# Altium schematic symbol library MixedICs.SCHLIB: 28 symbols
Pins are listed as number, name and electrical type; pins without a type are passive.

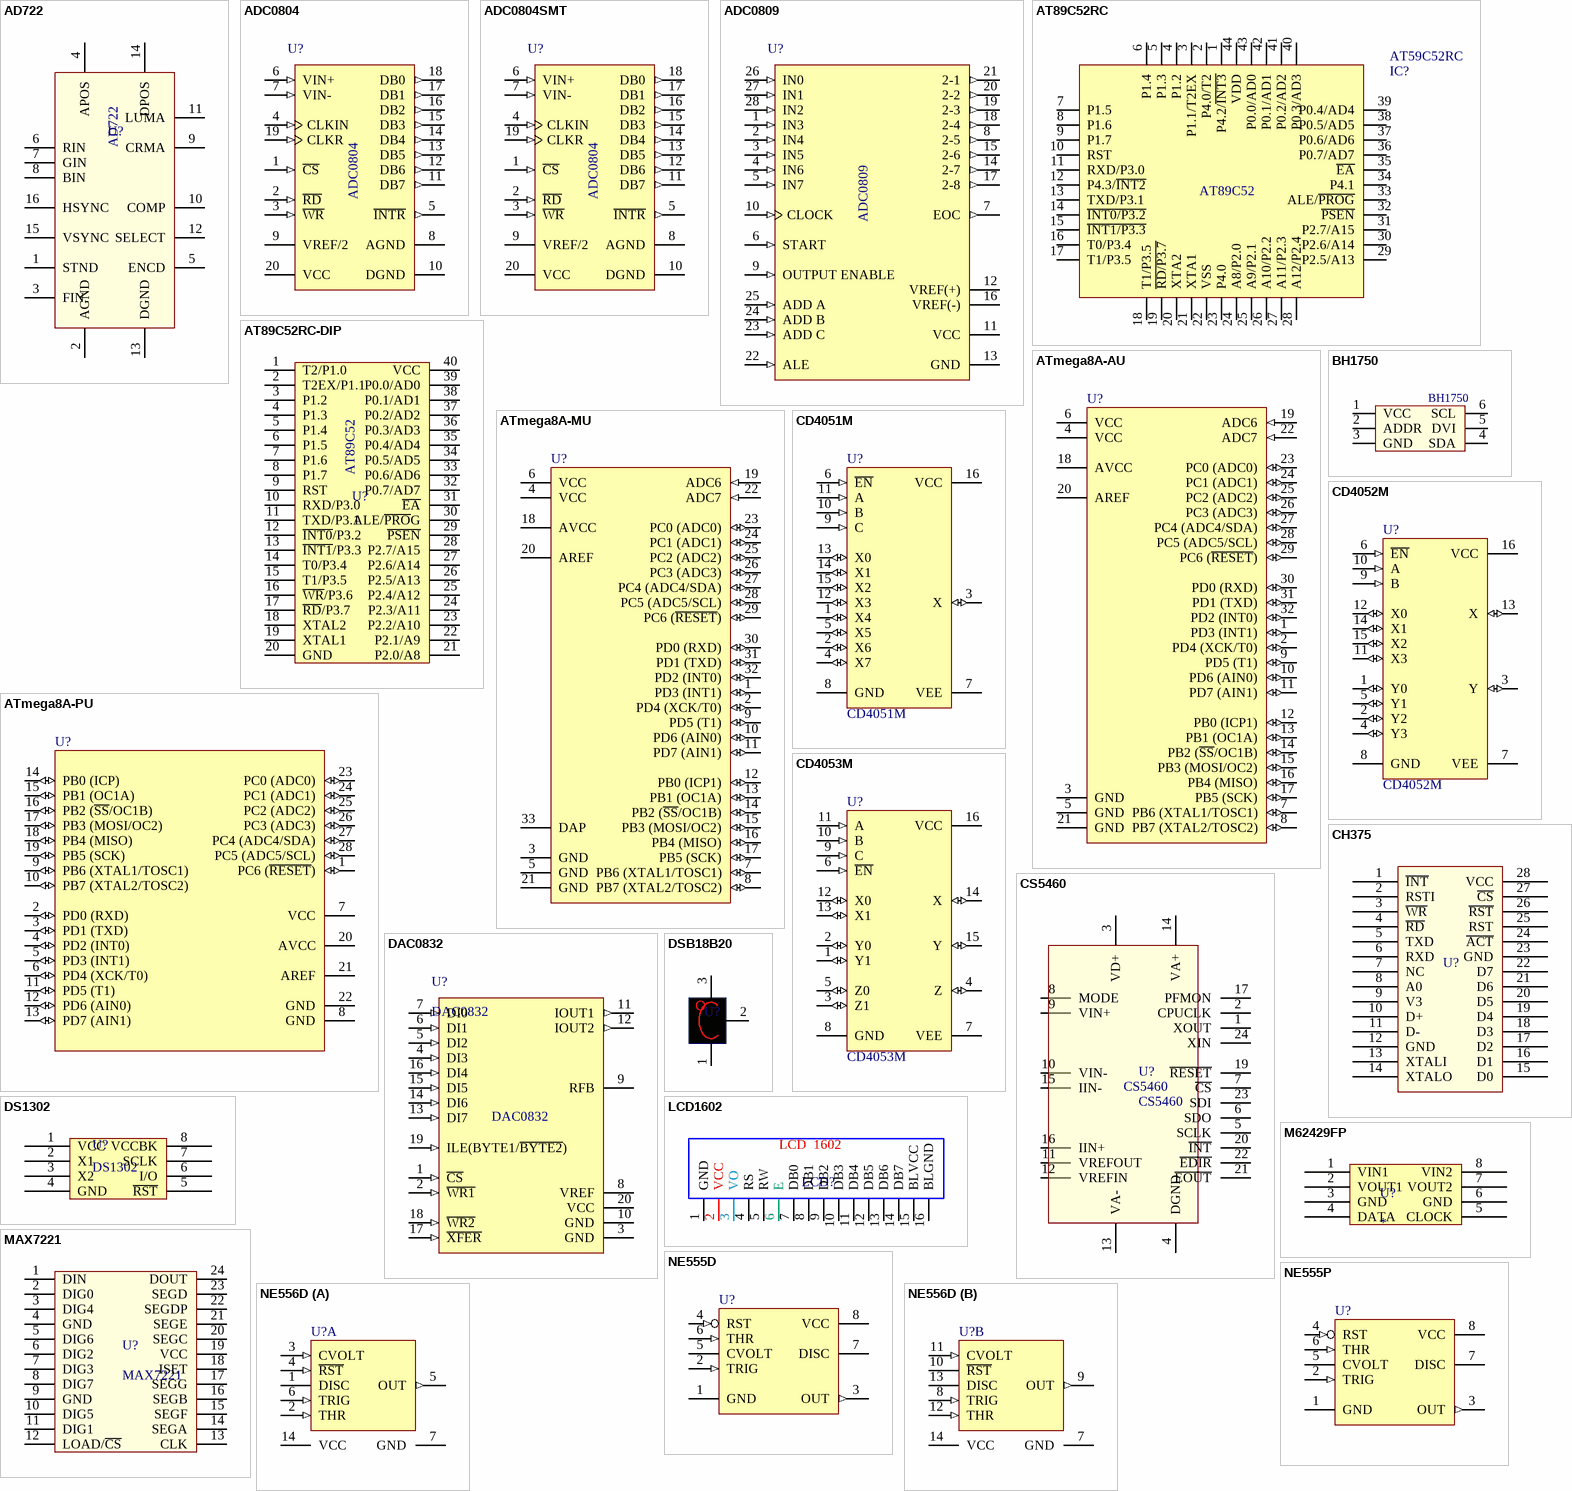
[diagram p0: symbols AD722 to NE556D]

## AD722
designator U?  (value not drawn)
RGB to NTSC/PAL Encoder
footprint SOP-16GN (Wide body.)
3D model SOIC-16W (PCB3D Model)
pins: 1 STND, 2 AGND, 3 FIN, 4 APOS, 5 ENCD, 6 RIN, 7 GIN, 8 BIN, 9 CRMA, 10 COMP, 11 LUMA, 12 SELECT, 13 DGND, 14 DPOS, 15 VSYNC, 16 HSYNC

## ADC0804
designator U?  (value not drawn)
8-Bit uP Compatible A/D Converters, 20-pin MDIP; PartNumber: ADC0804LCN; Manufacturer: National Semiconductor; PackageTopMarking: NSUZXYYTTE#*ADC0804LCN; PowerWise: N; CompType: ADC IC; Published: 4-Dec-2008; DatasheetVersion: Sep-1992; PackageVersion: revG, Nov-1984; PackageReference: N20A; Publisher: Altium Limited; PackageDescription: Molded Dip (N) 20 Lead; Supplier 1: Farnell; Supplier Part Number 1: 9486593; RoHS: N; PinCount: 20; Code_JEDEC: MS-001-AD; ComponentLink1Description: ADC0804 Datasheet; ComponentLink1URL: http://www.national.com/ds/AD/ADC0804.pdf; ComponentLink2Description: ADC0804 Web Page; ComponentLink2URL: http://www.national.com/pf/AD/ADC0804.html; ComponentLink3Description: N20A Package Page; ComponentLink3URL: http://www.national.com/packaging/folders/n20a.html
footprint DIP-20
3D model DIP-20 (PCB3D Model)
pins: 1 ~{CS} (in), 2 ~{RD} (in), 3 ~{WR} (in), 4 CLKIN (in), 5 ~{INTR} (out), 6 VIN+ (in), 7 VIN- (in), 8 AGND (power), 9 VREF/2 (power), 10 DGND (power), 11 DB7 (out), 12 DB6 (out), 13 DB5 (out), 14 DB4 (out), 15 DB3 (out), 16 DB2 (out), 17 DB1 (out), 18 DB0 (out), 19 CLKR (in), 20 VCC (power)

## ADC0804SMT
designator U?  (value not drawn)
8-Bit uP Compatible A/D Converters, 20-pin MDIP; PartNumber: ADC0804LCN; Manufacturer: National Semiconductor; PackageTopMarking: NSUZXYYTTE#*ADC0804LCN; PowerWise: N; CompType: ADC IC; Published: 4-Dec-2008; DatasheetVersion: Sep-1992; PackageVersion: revG, Nov-1984; PackageReference: N20A; Publisher: Altium Limited; PackageDescription: Molded Dip (N) 20 Lead; Supplier 1: Farnell; Supplier Part Number 1: 9486593; RoHS: N; PinCount: 20; Code_JEDEC: MS-001-AD; ComponentLink1Description: ADC0804 Datasheet; ComponentLink1URL: http://www.national.com/ds/AD/ADC0804.pdf; ComponentLink2Description: ADC0804 Web Page; ComponentLink2URL: http://www.national.com/pf/AD/ADC0804.html; ComponentLink3Description: N20A Package Page; ComponentLink3URL: http://www.national.com/packaging/folders/n20a.html
footprint SOP-20 (SOIC, 20-Leads, Body 12.8x7.5mm, Pitch 1.27mm, IPC Low Density)
3D model SOIC-20W (PCB3D Model)
pins: 1 ~{CS} (in), 2 ~{RD} (in), 3 ~{WR} (in), 4 CLKIN (in), 5 ~{INTR} (out), 6 VIN+ (in), 7 VIN- (in), 8 AGND (power), 9 VREF/2 (power), 10 DGND (power), 11 DB7 (out), 12 DB6 (out), 13 DB5 (out), 14 DB4 (out), 15 DB3 (out), 16 DB2 (out), 17 DB1 (out), 18 DB0 (out), 19 CLKR (in), 20 VCC (power)
text: ADC0804

## ADC0809
designator U?  (value not drawn)
8-bit Microprocessor Compatible A/D Converters With 8-Channel Multiplexer, 28-pin MDIP; PartNumber: ADC0809CCN; Manufacturer: National Semiconductor; PackageTopMarking: NSUZXYYTTE#*ADC0809CCN; PowerWise: N; CompType: ADC IC; Published: 4-Dec-2008; DatasheetVersion: Sep-1992; PackageVersion: revB, Aug-1993; PackageReference: NA28E; Publisher: Altium Limited; PackageDescription: Molded Dip, 28 Lead, .600 Centers, Substractor Package; Supplier 1: Farnell; Supplier Part Number 1: 9486682; RoHS: N; PinCount: 28; ComponentLink1Description: ADC0809 Datasheet; ComponentLink1URL: http://www.national.com/ds/AD/ADC0809.pdf; ComponentLink2Description: ADC0809 Web Page; ComponentLink2URL: http://www.national.com/pf/AD/ADC0809.html; ComponentLink3Description: NA28E Package Page; ComponentLink3URL: http://www.national.com/packaging/folders/na28e.html
footprint DIP-28
pins: 1 IN3 (in), 2 IN4 (in), 3 IN5 (in), 4 IN6 (in), 5 IN7 (in), 6 START (in), 7 EOC (out), 8 2-5 (out), 9 OUTPUT ENABLE (in), 10 CLOCK (in), 11 VCC (power), 12 VREF(+) (power), 13 GND (power), 14 2-7 (out), 15 2-6 (out), 16 VREF(-) (power), 17 2-8 (out), 18 2-4 (out), 19 2-3 (out), 20 2-2 (out), 21 2-1 (out), 22 ALE (in), 23 ADD C (in), 24 ADD B (in), 25 ADD A (in), 26 IN0 (in), 27 IN1 (in), 28 IN2 (in)

## AT89C52RC
designator AT59C52RC, comment IC?
footprint PLCC44
3D model PLCC-44 (PCB3D Model)
pins: 1 P4.2/~{INT3}, 2 P4.0/T2, 3 P1.1/T2EX, 4 P1.2, 5 P1.3, 6 P1.4, 7 P1.5, 8 P1.6, 9 P1.7, 10 RST, 11 RXD/P3.0, 12 P4.3/~{INT2}, 13 TXD/P3.1, 14 ~{INT0/P3.2}, 15 ~{INT1/P3.3}, 16 T0/P3.4, 17 T1/P3.5, 18 T1/P3.5, 19 ~{RD/P3.7}, 20 XTA2, 21 XTA1, 22 VSS, 23 P4.0, 24 A8/P2.0, 25 A9/P2.1, 26 A10/P2.2, 27 A11/P2.3, 28 A12/P2.4, 29 P2.5/A13, 30 P2.6/A14, 31 P2.7/A15, 32 ~{PSEN}, 33 ALE/~{PROG}, 34 P4.1, 35 ~{EA}, 36 P0.7/AD7, 37 P0.6/AD6, 38 P0.5/AD5, 39 P0.4/AD4, 40 P0.3/AD3, 41 P0.2/AD2, 42 P0.1/AD1, 43 P0.0/AD0, 44 VDD
text: AT89C52

## AT89C52RC-DIP
designator U?, comment AT89C52  (value not drawn)
AT89C52RC DIP40
footprint DIP-40
3D model DIP-40 (PCB3D Model)
pins: 1 T2/P1.0, 2 T2EX/P1.1, 3 P1.2, 4 P1.3, 5 P1.4, 6 P1.5, 7 P1.6, 8 P1.7, 9 RST, 10 RXD/P3.0, 11 TXD/P3.1, 12 ~{INT0}/P3.2, 13 ~{INT1}/P3.3, 14 T0/P3.4, 15 T1/P3.5, 16 ~{WR}/P3.6, 17 ~{RD}/P3.7, 18 XTAL2, 19 XTAL1, 20 GND, 21 P2.0/A8, 22 P2.1/A9, 23 P2.2/A10, 24 P2.3/A11, 25 P2.4/A12, 26 P2.5/A13, 27 P2.6/A14, 28 P2.7/A15, 29 ~{PSEN}, 30 ALE/~{PRO}G, 31 ~{EA}, 32 P0.7/AD7, 33 P0.6/AD6, 34 P0.5/AD5, 35 P0.4/AD4, 36 P0.3/AD3, 37 P0.2/AD2, 38 P0.1/AD1, 39 P0.0/AD0, 40 VCC

## ATmega8A-AU
designator U?
8-bit AVR Microcontroller, 8KB Flash, 512 Bytes EEPROM, 1KB SRAM, 32-pin TQFP, Industrial Grade (-40癈 to 85癈); Published: 1-Apr-2010; DatasheetVersion: revC, Jul-2009; PackageVersion: revB, Oct-2001; PackageReference: 32A; Publisher: Altium Limited; PackageDescription: 32-Lead, 7x7x1.0 mm Body, 0.8mm Lead Pitch, Thin Profile Plastic Quad Flat Package (TQFP); Supplier 1: Digi-Key; Supplier Part Number 1: ATMEGA8A-AU-ND; Supplier 2: Farnell; Supplier Part Number 2: 1748532; Supplier 3: Mouser; Supplier Part Number 3: 556-ATMEGA8A-AU; Code_JEDEC: MS-026-ABA; ComponentLink1Description: Manufacturer Link; ComponentLink1URL: http://www.atmel.com/products/avr/default.asp?; ComponentLink2Description: ATmega8A Datasheet; ComponentLink2URL: http://www.atmel.com/dyn/resources/prod_documents/doc8159.pdf; ComponentLink3Description: ATmega8A Summary; ComponentLink3URL: http://www.atmel.com/dyn/resources/prod_documents/8159S.pdf; ComponentLink4Description: Atmel.com Home; ComponentLink4URL: http://www.atmel.com
footprint TQFP-32AN (Thin QFP, 32-Leads, Body 7x7mm, Pitch 0.8mm, IPC Medium Density)
footprint TQFP-32AL (Thin QFP, 32-Leads, Body 7x7mm, Pitch 0.8mm, IPC High Density)
footprint TQFP-32AM (Thin QFP, 32-Leads, Body 7x7mm, Pitch 0.8mm, IPC Low Density)
pins: 1 PD3 (INT1) (io), 2 PD4 (XCK/T0) (io), 3 GND (power), 4 VCC (power), 5 GND (power), 6 VCC (power), 7 PB6 (XTAL1/TOSC1) (io), 8 PB7 (XTAL2/TOSC2) (io), 9 PD5 (T1) (io), 10 PD6 (AIN0) (io), 11 PD7 (AIN1) (io), 12 PB0 (ICP1) (io), 13 PB1 (OC1A) (io), 14 PB2 (~{SS}/OC1B) (io), 15 PB3 (MOSI/OC2) (io), 16 PB4 (MISO) (io), 17 PB5 (SCK) (io), 18 AVCC (power), 19 ADC6 (in), 20 AREF (power), 21 GND (power), 22 ADC7 (in), 23 PC0 (ADC0) (io), 24 PC1 (ADC1) (io), 25 PC2 (ADC2) (io), 26 PC3 (ADC3) (io), 27 PC4 (ADC4/SDA) (io), 28 PC5 (ADC5/SCL) (io), 29 PC6 (~{RESET}) (io), 30 PD0 (RXD) (io), 31 PD1 (TXD) (io), 32 PD2 (INT0) (io)

## ATmega8A-MU
designator U?
8-bit AVR Microcontroller, 8KB Flash, 512 Bytes EEPROM, 1KB SRAM, 33-pin MLF, Industrial Grade (-40癈 to 85癈); Published: 1-Apr-2010; DatasheetVersion: revC, Jul-2009; PackageVersion: revE, May-2006; PackageReference: 32M1-A; Publisher: Altium Limited; PackageDescription: 32-Pin Micro Lead Frame Package (MLF),  5 x 5 x 1.0 mm Body, Pitch 0.50 mm, 3.10mm Exposed Pad; Supplier 1: Digi-Key; Supplier Part Number 1: ATMEGA8A-MU-ND; Supplier 2: Farnell; Supplier Part Number 2: 1748533; Supplier 3: Mouser; Supplier Part Number 3: 556-ATMEGA8A-MU; Code_JEDEC: MO-220-VHHD-2; ComponentLink1Description: Manufacturer Link; ComponentLink1URL: http://www.atmel.com/products/avr/default.asp?; ComponentLink2Description: ATmega8A Datasheet; ComponentLink2URL: http://www.atmel.com/dyn/resources/prod_documents/doc8159.pdf; ComponentLink3Description: ATmega8A Summary; ComponentLink3URL: http://www.atmel.com/dyn/resources/prod_documents/8159S.pdf; ComponentLink4Description: Atmel.com Home; ComponentLink4URL: http://www.atmel.com
footprint 32M1-A_N (QFN, 32-Leads, Body 5x5mm, Pitch 0.5mm, IPC Medium Density)
footprint 32M1-A_L (QFN, 32-Leads, Body 5x5mm, Pitch 0.5mm, IPC High Density)
footprint 32M1-A_M (QFN, 32-Leads, Body 5x5mm, Pitch 0.5mm, IPC Low Density)
pins: 1 PD3 (INT1) (io), 2 PD4 (XCK/T0) (io), 3 GND (power), 4 VCC (power), 5 GND (power), 6 VCC (power), 7 PB6 (XTAL1/TOSC1) (io), 8 PB7 (XTAL2/TOSC2) (io), 9 PD5 (T1) (io), 10 PD6 (AIN0) (io), 11 PD7 (AIN1) (io), 12 PB0 (ICP1) (io), 13 PB1 (OC1A) (io), 14 PB2 (~{SS}/OC1B) (io), 15 PB3 (MOSI/OC2) (io), 16 PB4 (MISO) (io), 17 PB5 (SCK) (io), 18 AVCC (power), 19 ADC6 (in), 20 AREF (power), 21 GND (power), 22 ADC7 (in), 23 PC0 (ADC0) (io), 24 PC1 (ADC1) (io), 25 PC2 (ADC2) (io), 26 PC3 (ADC3) (io), 27 PC4 (ADC4/SDA) (io), 28 PC5 (ADC5/SCL) (io), 29 PC6 (~{RESET}) (io), 30 PD0 (RXD) (io), 31 PD1 (TXD) (io), 32 PD2 (INT0) (io), 33 DAP (power)

## ATmega8A-PU
designator U?
8-bit AVR Microcontroller, 8KB Flash, 512 Bytes EEPROM, 1KB SRAM, 28-pin PDIP, Industrial Grade (-40癈 to 85癈); Published: 1-Apr-2010; DatasheetVersion: revC, Jul-2009; PackageVersion: revB, Sep-2001; PackageReference: 28P3; Publisher: Altium Limited; PackageDescription: 28-lead (0.300"/7.62mm Wide) Plastic Dual Inline Package (PDIP); Supplier 1: Digi-Key; Supplier Part Number 1: ATMEGA8A-PU-ND; Supplier 2: Farnell; Supplier Part Number 2: 1748534; Supplier 3: Mouser; Supplier Part Number 3: 556-ATMEGA8A-PU; ComponentLink1Description: Manufacturer Link; ComponentLink1URL: http://www.atmel.com/products/avr/default.asp?; ComponentLink2Description: ATmega8A Datasheet; ComponentLink2URL: http://www.atmel.com/dyn/resources/prod_documents/doc8159.pdf; ComponentLink3Description: ATmega8A Summary; ComponentLink3URL: http://www.atmel.com/dyn/resources/prod_documents/8159S.pdf; ComponentLink4Description: Atmel.com Home; ComponentLink4URL: http://www.atmel.com
footprint DIP-28 (DIP, 28-Leads, Row Spacing 7.62mm, Pitch 2.54mm, Body 34.67x7.3mm)
pins: 1 PC6 (~{RESET}) (io), 2 PD0 (RXD) (io), 3 PD1 (TXD) (io), 4 PD2 (INT0) (io), 5 PD3 (INT1) (io), 6 PD4 (XCK/T0) (io), 7 VCC (power), 8 GND (power), 9 PB6 (XTAL1/TOSC1) (io), 10 PB7 (XTAL2/TOSC2) (io), 11 PD5 (T1) (io), 12 PD6 (AIN0) (io), 13 PD7 (AIN1) (io), 14 PB0 (ICP) (io), 15 PB1 (OC1A) (io), 16 PB2 (~{SS}/OC1B) (io), 17 PB3 (MOSI/OC2) (io), 18 PB4 (MISO) (io), 19 PB5 (SCK) (io), 20 AVCC (power), 21 AREF, 22 GND (power), 23 PC0 (ADC0) (io), 24 PC1 (ADC1) (io), 25 PC2 (ADC2) (io), 26 PC3 (ADC3) (io), 27 PC4 (ADC4/SDA) (io), 28 PC5 (ADC5/SCL) (io)

## BH1750
designator U?  (value not drawn)
16 位数字输出型   环境光强度传感器集成电路
footprint SMT6 (For BH1750FVI)
pins: 1 VCC, 2 ADDR, 3 GND, 4 SDA, 5 DVI, 6 SCL

## CD4051M
designator U?
8-Channel Analog Multiplexer; Published: 17-Jul-2002; LatestRevisionDate: 13-Apr-2006; LatestRevisionNote: IPC-7351 Footprint Added.; DatasheetVersion: May-1999; PackageVersion: 2000; PackageReference: M16A; Publisher: Altium Limited; PackageDescription: 16-Pin Small Outline Integrated Circuit 1.27 mm Pitch; Code_IPC: SOIC127P600-16; ComponentLink1Description: Manufacturer Link; ComponentLink1URL: http://www.fairchildsemi.com/
3D model SOIC-16A (PCB3D Model)
footprint SOP-16GL
footprint SOP-16GM
footprint SOP-16GN (Wide body.)
pins: 1 X4 (io), 2 X6 (io), 3 X (io), 4 X7 (io), 5 X5 (io), 6 ~{EN} (in), 7 VEE (power), 8 GND (power), 9 C (in), 10 B (in), 11 A (in), 12 X3 (io), 13 X0 (io), 14 X1 (io), 15 X2 (io), 16 VCC (power)

## CD4052M
designator U?
Dual 4-Channel Analog Multiplexer; Published: 17-Jul-2002; LatestRevisionDate: 13-Apr-2006; LatestRevisionNote: IPC-7351 Footprint Added.; DatasheetVersion: May-1999; PackageVersion: 2000; PackageReference: M16A; Publisher: Altium Limited; PackageDescription: 16-Pin Small Outline Integrated Circuit 1.27 mm Pitch; Code_IPC: SOIC127P600-16; ComponentLink1Description: Manufacturer Link; ComponentLink1URL: http://www.fairchildsemi.com/
footprint SOP-16GL
3D model SOIC-16A (PCB3D Model)
footprint SOP-16GM
footprint SOP-16GN (Wide body.)
pins: 1 Y0 (io), 2 Y2 (io), 3 Y (io), 4 Y3 (io), 5 Y1 (io), 6 ~{EN} (in), 7 VEE (power), 8 GND (power), 9 B (in), 10 A (in), 11 X3 (io), 12 X0 (io), 13 X (io), 14 X1 (io), 15 X2 (io), 16 VCC (power)

## CD4053M
designator U?
Triple 2-Channel Analog Multiplexer; Published: 17-Jul-2002; LatestRevisionDate: 13-Apr-2006; LatestRevisionNote: IPC-7351 Footprint Added.; DatasheetVersion: May-1999; PackageVersion: 2000; PackageReference: M16A; Publisher: Altium Limited; PackageDescription: 16-Pin Small Outline Integrated Circuit 1.27 mm Pitch; Code_IPC: SOIC127P600-16; ComponentLink1Description: Manufacturer Link; ComponentLink1URL: http://www.fairchildsemi.com/
footprint SO-G16
3D model SOIC-16A (PCB3D Model)
pins: 1 Y1 (io), 2 Y0 (io), 3 Z1 (io), 4 Z (io), 5 Z0 (io), 6 ~{EN} (in), 7 VEE (power), 8 GND (power), 9 C (in), 10 B (in), 11 A (in), 12 X0 (io), 13 X1 (io), 14 X (io), 15 Y (io), 16 VCC (power)

## CH375
designator U?  (value not drawn)
USB 总线接口芯片
footprint SOP-28
3D model TSSOP-28 (PCB3D Model)
pins: 1 ~{INT}, 2 RSTI, 3 ~{WR}, 4 ~{RD}, 5 TXD, 6 RXD, 7 NC, 8 A0, 9 V3, 10 D+, 11 D-, 12 GND, 13 XTALI, 14 XTALO, 15 D0, 16 D1, 17 D2, 18 D3, 19 D4, 20 D5, 21 D6, 22 D7, 23 GND, 24 ~{ACT}, 25 RST, 26 ~{RST}, 27 ~{CS}, 28 VCC

## CS5460
designator U?
footprint SSOP-24N (Footprint not found)
pins: 1 XOUT, 2 CPUCLK, 3 VD+, 4 DGND, 5 SCLK, 6 SDO, 7 ~{CS}, 8 MODE, 9 VIN+, 10 VIN-, 11 VREFOUT, 12 VREFIN, 13 VA-, 14 VA+, 15 IIN-, 16 IIN+, 17 PFMON, 18 NC hidden, 19 ~{RESET}, 20 ~{INT}, 21 ~{EOUT}, 22 ~{EDIR}, 23 SDI, 24 XIN

## DAC0832
designator U?
8-bit Microprocessor Compatible, Double-Buffered D/A Converter
footprint DIP-20
footprint SOP-20 (SOIC, 20-Leads, Body 12.8x7.5mm, Pitch 1.27mm, IPC Low Density)
3D model DIP-20 (PCB3D Model)
pins: 1 ~{CS} (in), 2 ~{WR1} (in), 3 GND (power), 4 DI3 (in), 5 DI2 (in), 6 DI1 (in), 7 DI0 (in), 8 VREF (power), 9 RFB, 10 GND (power), 11 IOUT1 (out), 12 IOUT2 (out), 13 DI7 (in), 14 DI6 (in), 15 DI5 (in), 16 DI4 (in), 17 ~{XFER} (in), 18 ~{WR2} (in), 19 ILE(BYTE1/~{BYTE2}) (in), 20 VCC (power)

## DS1302
designator U?  (value not drawn)
Clock
footprint DIP-8
footprint SOP-8G
pins: 1 VCC, 2 X1, 3 X2, 4 GND, 5 ~{RST}, 6 I/O, 7 SCLK, 8 VCCBK

## DSB18B20
designator U?  (value not drawn)
Temperature Sensor
footprint BCY-W3/E4 (TO, Flat Index; 3 In-Line, Axial Leads; Body Dia. 4.5mm; Leads 0.51 x 0.48 mm (max))
pins: 1 GND, 2 DATA, 3 VDD

## LCD1602
designator LCD?  (value not drawn)
footprint HDR1X16 (Connector; Header; 16 Position)
pins: 1 GND, 2 VCC, 3 VO, 4 RS, 5 RW, 6 E, 7 DB0, 8 DB1, 9 DB2, 10 DB3, 11 DB4, 12 DB5, 13 DB6, 14 DB7, 15 BLVCC, 16 BLGND
text: LCD  1602

## M62429FP
designator U?
SERIAL DATA CONTROL DUAL ELECTRONIC VOLUME
footprint SOP-8G
footprint DIP-8
pins: 1 VIN1, 2 VOUT1, 3 GND, 4 DATA, 5 CLOCK, 6 GND, 7 VOUT2, 8 VIN2

## MAX7221
designator U?
Serially Interfaced, 8-Digit LED Display Drivers
footprint DIP-24
pins: 1 DIN, 2 DIG0, 3 DIG4, 4 GND, 5 DIG6, 6 DIG2, 7 DIG3, 8 DIG7, 9 GND, 10 DIG5, 11 DIG1, 12 LOAD/~{CS}, 13 CLK, 14 SEGA, 15 SEGF, 16 SEGB, 17 SEGG, 18 ISET, 19 VCC, 20 SEGC, 21 SEGE, 22 SEGDP, 23 SEGD, 24 DOUT

## NE555D
designator U?
Precision Timer; Published: 16-Jan-2001; LatestRevisionDate: 13-Apr-2006; LatestRevisionNote: IPC-7351 Footprint Added.; DatasheetVersion: Feb-1992; PackageVersion: Jan-1998; PackageReference: D008; Publisher: Altium Limited; PackageDescription: 8-Pin Small Outline Integrated Circuit 1.27 mm Pitch; Code_IPC: SOIC127P600-8; ComponentLink1Description: Manufacturer Link; ComponentLink1URL: http://www.ti.com/; ComponentLink2Description: Datasheet; ComponentLink2URL: http://www-s.ti.com/sc/ds/ne555.pdf
footprint SOP-8N (SOIC, 8-Leads, Body 4.9x3.9mm, Pitch 1.27mm, IPC Medium Density)
footprint SOP-8L (SOIC, 8-Leads, Body 4.9x3.9mm, Pitch 1.27mm, IPC High Density)
footprint SOP-8M (SOIC, 8-Leads, Body 4.9x3.9mm, Pitch 1.27mm, IPC Low Density)
pins: 1 GND (power), 2 TRIG (in), 3 OUT (out), 4 RST (in), 5 CVOLT, 6 THR (in), 7 DISC (oc), 8 VCC (power)

## NE555P
designator U?
Precision Timer; Published: 16-Jan-2001; LatestRevisionDate: 04-Mar-2005; LatestRevisionNote: Stylized 3D Model Added.; DatasheetVersion: Feb-1992; PackageVersion: Jun-1999; PackageReference: P008; Publisher: Altium Limited; PackageDescription: DIP; 8 Leads; Row Spacing 7.62 mm; Pitch 2.54 mm; Code_JEDEC: MO-001-AN; ComponentLink1Description: Manufacturer Link; ComponentLink1URL: http://www.ti.com/; ComponentLink2Description: Datasheet; ComponentLink2URL: http://www-s.ti.com/sc/ds/ne555.pdf
footprint DIP-8
3D model DIP8 (PCB3D Model)
pins: 1 GND (power), 2 TRIG (in), 3 OUT (out), 4 RST (in), 5 CVOLT, 6 THR (in), 7 DISC (oc), 8 VCC (power)

## NE556D
designator U?
Dual Precision Timer; Published: 16-Jan-2001; LatestRevisionDate: 13-Apr-2006; LatestRevisionNote: IPC-7351 Footprint Added.; DatasheetVersion: Dec-1999; PackageVersion: Jan-1998; PackageReference: D014; Publisher: Altium Limited; PackageDescription: 14-Pin Small Outline Integrated Circuit 1.27 mm Pitch; Code_IPC: SOIC127P600-14; ComponentLink1Description: Manufacturer Link; ComponentLink1URL: http://www.ti.com/; ComponentLink2Description: Datasheet; ComponentLink2URL: http://www-s.ti.com/sc/ds/ne556.pdf
footprint DIP-14
3D model DIP-14 (PCB3D Model)
pins on every part: 7 GND (power), 14 VCC (power)
part A pins: 1 DISC (oc), 2 THR (in), 3 CVOLT (in), 4 ~{RST} (in), 5 OUT (out), 6 TRIG (in)
part B pins: 8 TRIG (in), 9 OUT (out), 10 ~{RST}, 11 CVOLT (in), 12 THR (in), 13 DISC (oc)

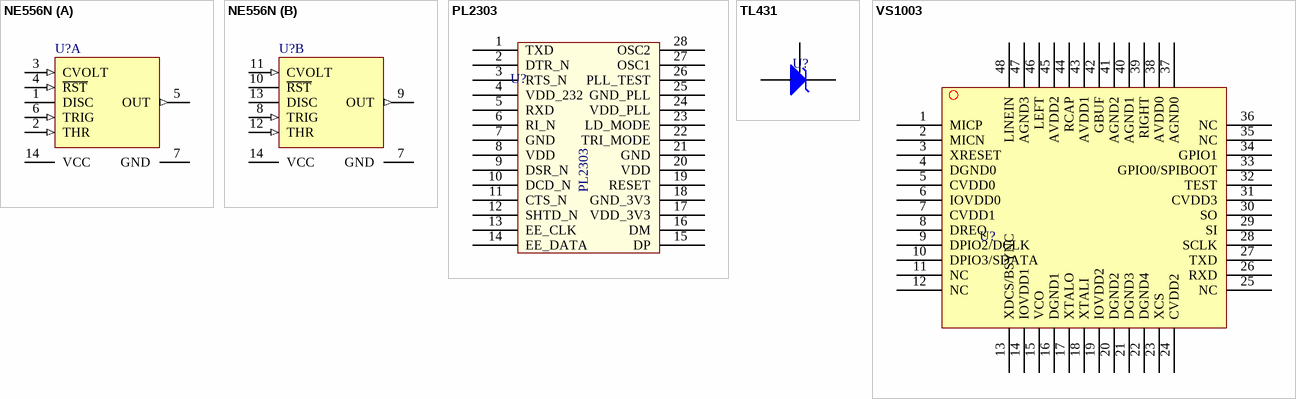
[diagram p1: symbols NE556N to VS1003]

## NE556N
designator U?
Dual Precision Timer; Published: 16-Jan-2001; LatestRevisionDate: 04-Mar-2005; LatestRevisionNote: Stylized 3D Model Added.; DatasheetVersion: Dec-1999; PackageVersion: Oct-1995; PackageReference: N014; Publisher: Altium Limited; PackageDescription: DIP; 14 Leads; Row Spacing 7.62 mm; Pitch 2.54 mm; ComponentLink1Description: Manufacturer Link; ComponentLink1URL: http://www.ti.com/; ComponentLink2Description: Datasheet; ComponentLink2URL: http://www-s.ti.com/sc/ds/ne556.pdf
footprint DIP-14
3D model SOIC-14 (PCB3D Model)
pins on every part: 7 GND (power), 14 VCC (power)
part A pins: 1 DISC (oc), 2 THR (in), 3 CVOLT (in), 4 ~{RST} (in), 5 OUT (out), 6 TRIG (in)
part B pins: 8 TRIG (in), 9 OUT (out), 10 ~{RST}, 11 CVOLT (in), 12 THR (in), 13 DISC (oc)

## PL2303
designator U?  (value not drawn)
footprint TSOP28
pins: 1 TXD, 2 DTR_N, 3 RTS_N, 4 VDD_232, 5 RXD, 6 RI_N, 7 GND, 8 VDD, 9 DSR_N, 10 DCD_N, 11 CTS_N, 12 SHTD_N, 13 EE_CLK, 14 EE_DATA, 15 DP, 16 DM, 17 VDD_3V3, 18 GND_3V3, 19 RESET, 20 VDD, 21 GND, 22 TRI_MODE, 23 LD_MODE, 24 VDD_PLL, 25 GND_PLL, 26 PLL_TEST, 27 OSC1, 28 OSC2

## TL431
designator U?  (value not drawn)
footprint BCY-W3/E4
pins: 1 R, 2 A, 3 K

## VS1003
designator U?  (value not drawn)
MP3/WMA AUDIO CODEC
pins: 1 MICP, 2 MICN, 3 XRESET, 4 DGND0, 5 CVDD0, 6 IOVDD0, 7 CVDD1, 8 DREQ, 9 DPIO2/DCLK, 10 DPIO3/SDATA, 11 NC, 12 NC, 13 XDCS/BSYNC, 14 IOVDD1, 15 VCO, 16 DGND1, 17 XTALO, 18 XTALI, 19 IOVDD2, 20 DGND2, 21 DGND3, 22 DGND4, 23 XCS, 24 CVDD2, 25 NC, 26 RXD, 27 TXD, 28 SCLK, 29 SI, 30 SO, 31 CVDD3, 32 TEST, 33 GPIO0/SPIBOOT, 34 GPIO1, 35 NC, 36 NC, 37 AGND0, 38 AVDD0, 39 RIGHT, 40 AGND1, 41 AGND2, 42 GBUF, 43 AVDD1, 44 RCAP, 45 AVDD2, 46 LEFT, 47 AGND3, 48 LINEIN